# Altium footprint library etx-board.PCBLIB: 4 footprints
Each footprint in its own frame and in the unit in brackets; x right, y up, seen from the top. Pads: shape width x height; smd on the part's side, far side on the other; paste and mask are expansions set on the pad; w line width, h text height; cw(c..) or ccw(c..) is an arc to the next point about the centre after c.
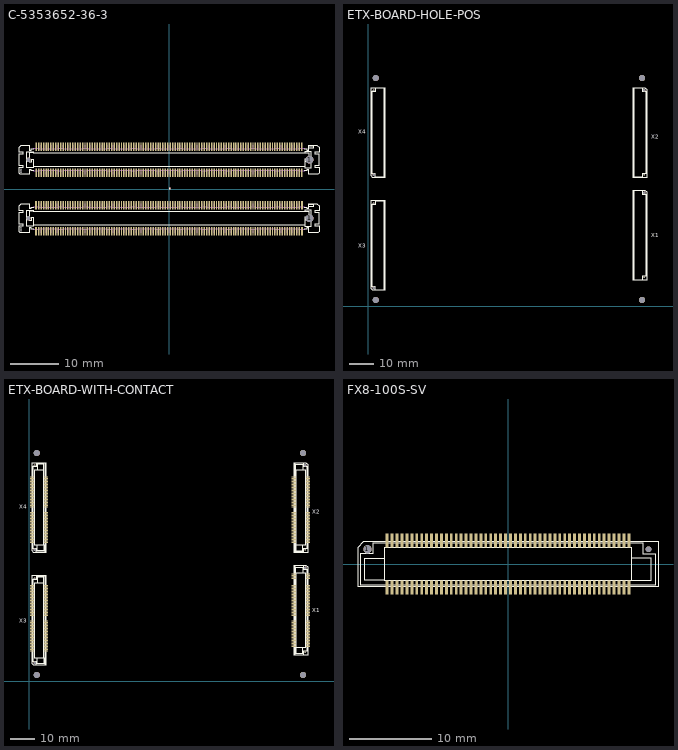
[diagram p0: the footprints below, top view; thin cyan lines are the x and y axes]

## C-5353652-36-3 [mm]
pads (446):
  round 0.9 hole 0.9: 1(-28.85,-6) 1(-28.85,-6) 1(-28.85,6)
  round 1.6 hole 1.6: 1(28.85,-6) 1(28.85,-6) 1(28.85,6)
  rect 0.3x1.75 smd: A1(27.25,8.675) A2(26.75,8.675) A3(26.25,8.675) A4(25.75,8.675) A5(25.25,8.675) A6(24.75,8.675) A7(24.25,8.675) A8(23.75,8.675) A9(23.25,8.675) A10(22.75,8.675) A11(22.25,8.675) A12(21.75,8.675) A13(21.25,8.675) A14(20.75,8.675) A15(20.25,8.675) A16(19.75,8.675) A17(19.25,8.675) A18(18.75,8.675) A19(18.25,8.675) A20(17.75,8.675) A21(17.25,8.675) A22(16.75,8.675) A23(16.25,8.675) A24(15.75,8.675) A25(15.25,8.675) A26(14.75,8.675) A27(14.25,8.675) A28(13.75,8.675) A29(13.25,8.675) A30(12.75,8.675) A31(12.25,8.675) A32(11.75,8.675) A33(11.25,8.675) A34(10.75,8.675) A35(10.25,8.675) A36(9.75,8.675) A37(9.25,8.675) A38(8.75,8.675) A39(8.25,8.675) A40(7.75,8.675) A41(7.25,8.675) A42(6.75,8.675) A43(6.25,8.675) A44(5.75,8.675) A45(5.25,8.675) A46(4.75,8.675) A47(4.25,8.675) A48(3.75,8.675) A49(3.25,8.675) A50(2.75,8.675) A51(2.25,8.675) A52(1.75,8.675) A53(1.25,8.675) A54(0.75,8.675) A55(0.25,8.675) A56(-0.25,8.675) A57(-0.75,8.675) A58(-1.25,8.675) A59(-1.75,8.675) A60(-2.25,8.675) A61(-2.75,8.675) A62(-3.25,8.675) A63(-3.75,8.675) A64(-4.25,8.675) A65(-4.75,8.675) A66(-5.25,8.675) A67(-5.75,8.675) A68(-6.25,8.675) A69(-6.75,8.675) A70(-7.25,8.675) A71(-7.75,8.675) A72(-8.25,8.675) A73(-8.75,8.675) A74(-9.25,8.675) A75(-9.75,8.675) A76(-10.25,8.675) A77(-10.75,8.675) A78(-11.25,8.675) A79(-11.75,8.675) A80(-12.25,8.675) A81(-12.75,8.675) A82(-13.25,8.675) A83(-13.75,8.675) A84(-14.25,8.675) A85(-14.75,8.675) A86(-15.25,8.675) A87(-15.75,8.675) A88(-16.25,8.675) A89(-16.75,8.675) A90(-17.25,8.675) A91(-17.75,8.675) A92(-18.25,8.675) A93(-18.75,8.675) A94(-19.25,8.675) A95(-19.75,8.675) A96(-20.25,8.675) A97(-20.75,8.675) A98(-21.25,8.675) A99(-21.75,8.675) A100(-22.25,8.675) A101(-22.75,8.675) A102(-23.25,8.675) A103(-23.75,8.675) A104(-24.25,8.675) A105(-24.75,8.675) A106(-25.25,8.675) A107(-25.75,8.675) A108(-26.25,8.675) A109(-26.75,8.675) A110(-27.25,8.675) B1(27.25,3.325) B2(26.75,3.325) B3(26.25,3.325) B4(25.75,3.325) B5(25.25,3.325) B6(24.75,3.325) B7(24.25,3.325) B8(23.75,3.325) B9(23.25,3.325) B10(22.75,3.325) B11(22.25,3.325) B12(21.75,3.325) B13(21.25,3.325) B14(20.75,3.325) B15(20.25,3.325) B16(19.75,3.325) B17(19.25,3.325) B18(18.75,3.325) B19(18.25,3.325) B20(17.75,3.325) B21(17.25,3.325) B22(16.75,3.325) B23(16.25,3.325) B24(15.75,3.325) B25(15.25,3.325) B26(14.75,3.325) B27(14.25,3.325) B28(13.75,3.325) B29(13.25,3.325) B30(12.75,3.325) B31(12.25,3.325) B32(11.75,3.325) B33(11.25,3.325) B34(10.75,3.325) B35(10.25,3.325) B36(9.75,3.325) B37(9.25,3.325) B38(8.75,3.325) B39(8.25,3.325) B40(7.75,3.325) B41(7.25,3.325) B42(6.75,3.325) B43(6.25,3.325) B44(5.75,3.325) B45(5.25,3.325) B46(4.75,3.325) B47(4.25,3.325) B48(3.75,3.325) B49(3.25,3.325) B50(2.75,3.325) B51(2.25,3.325) B52(1.75,3.325) B53(1.25,3.325) B54(0.75,3.325) B55(0.25,3.325) B56(-0.25,3.325) B57(-0.75,3.325) B58(-1.25,3.325) B59(-1.75,3.325) B60(-2.25,3.325) B61(-2.75,3.325) B62(-3.25,3.325) B63(-3.75,3.325) B64(-4.25,3.325) B65(-4.75,3.325) B66(-5.25,3.325) B67(-5.75,3.325) B68(-6.25,3.325) B69(-6.75,3.325) B70(-7.25,3.325) B71(-7.75,3.325) B72(-8.25,3.325) B73(-8.75,3.325) B74(-9.25,3.325) B75(-9.75,3.325) B76(-10.25,3.325) B77(-10.75,3.325) B78(-11.25,3.325) B79(-11.75,3.325) B80(-12.25,3.325) B81(-12.75,3.325) B82(-13.25,3.325) B83(-13.75,3.325) B84(-14.25,3.325) B85(-14.75,3.325) B86(-15.25,3.325) B87(-15.75,3.325) B88(-16.25,3.325) B89(-16.75,3.325) B90(-17.25,3.325) B91(-17.75,3.325) B92(-18.25,3.325) B93(-18.75,3.325) B94(-19.25,3.325) B95(-19.75,3.325) B96(-20.25,3.325) B97(-20.75,3.325) B98(-21.25,3.325) B99(-21.75,3.325) B100(-22.25,3.325) B101(-22.75,3.325) B102(-23.25,3.325) B103(-23.75,3.325) B104(-24.25,3.325) B105(-24.75,3.325) B106(-25.25,3.325) B107(-25.75,3.325) B108(-26.25,3.325) B109(-26.75,3.325) B110(-27.25,3.325) C2(26.75,-3.325) C3(26.25,-3.325) C4(25.75,-3.325) C5(25.25,-3.325) C6(24.75,-3.325) C7(24.25,-3.325) C8(23.75,-3.325) C9(23.25,-3.325) C10(22.75,-3.325) C11(22.25,-3.325) C12(21.75,-3.325) C13(21.25,-3.325) C14(20.75,-3.325) C15(20.25,-3.325) C16(19.75,-3.325) C17(19.25,-3.325) C18(18.75,-3.325) C19(18.25,-3.325) C20(17.75,-3.325) C21(17.25,-3.325) C22(16.75,-3.325) C23(16.25,-3.325) C24(15.75,-3.325) C25(15.25,-3.325) C26(14.75,-3.325) C27(14.25,-3.325) C28(13.75,-3.325) C29(13.25,-3.325) C30(12.75,-3.325) C31(12.25,-3.325) C32(11.75,-3.325) C33(11.25,-3.325) C34(10.75,-3.325) C35(10.25,-3.325) C36(9.75,-3.325) C37(9.25,-3.325) C38(8.75,-3.325) C39(8.25,-3.325) C40(7.75,-3.325) C41(7.25,-3.325) C42(6.75,-3.325) C43(6.25,-3.325) C44(5.75,-3.325) C45(5.25,-3.325) C46(4.75,-3.325) C47(4.25,-3.325) C48(3.75,-3.325) C49(3.25,-3.325) C50(2.75,-3.325) C51(2.25,-3.325) C52(1.75,-3.325) C53(1.25,-3.325) C54(0.75,-3.325) C55(0.25,-3.325) C56(-0.25,-3.325) C57(-0.75,-3.325) C58(-1.25,-3.325) C59(-1.75,-3.325) C60(-2.25,-3.325) C61(-2.75,-3.325) C62(-3.25,-3.325) C63(-3.75,-3.325) C64(-4.25,-3.325) C65(-4.75,-3.325) C66(-5.25,-3.325) C67(-5.75,-3.325) C68(-6.25,-3.325) C69(-6.75,-3.325) C70(-7.25,-3.325) C71(-7.75,-3.325) C72(-8.25,-3.325) C73(-8.75,-3.325) C74(-9.25,-3.325) C75(-9.75,-3.325) C76(-10.25,-3.325) C77(-10.75,-3.325) C78(-11.25,-3.325) C79(-11.75,-3.325) C80(-12.25,-3.325) C81(-12.75,-3.325) C82(-13.25,-3.325) C83(-13.75,-3.325) C84(-14.25,-3.325) C85(-14.75,-3.325) C86(-15.25,-3.325) C87(-15.75,-3.325) C88(-16.25,-3.325) C89(-16.75,-3.325) C90(-17.25,-3.325) C91(-17.75,-3.325) C92(-18.25,-3.325) C93(-18.75,-3.325) C94(-19.25,-3.325) C95(-19.75,-3.325) C96(-20.25,-3.325) C97(-20.75,-3.325) C98(-21.25,-3.325) C99(-21.75,-3.325) C100(-22.25,-3.325) C101(-22.75,-3.325) C102(-23.25,-3.325) C103(-23.75,-3.325) C104(-24.25,-3.325) C105(-24.75,-3.325) C106(-25.25,-3.325) C107(-25.75,-3.325) C108(-26.25,-3.325) C109(-26.75,-3.325) D2(26.75,-8.675) D3(26.25,-8.675) D4(25.75,-8.675) D5(25.25,-8.675) D6(24.75,-8.675) D7(24.25,-8.675) D8(23.75,-8.675) D9(23.25,-8.675) D10(22.75,-8.675) D11(22.25,-8.675) D12(21.75,-8.675) D13(21.25,-8.675) D14(20.75,-8.675) D15(20.25,-8.675) D16(19.75,-8.675) D17(19.25,-8.675) D18(18.75,-8.675) D19(18.25,-8.675) D20(17.75,-8.675) D21(17.25,-8.675) D22(16.75,-8.675) D23(16.25,-8.675) D24(15.75,-8.675) D25(15.25,-8.675) D26(14.75,-8.675) D27(14.25,-8.675) D28(13.75,-8.675) D29(13.25,-8.675) D30(12.75,-8.675) D31(12.25,-8.675) D32(11.75,-8.675) D33(11.25,-8.675) D34(10.75,-8.675) D35(10.25,-8.675) D36(9.75,-8.675) D37(9.25,-8.675) D38(8.75,-8.675) D39(8.25,-8.675) D40(7.75,-8.675) D41(7.25,-8.675) D42(6.75,-8.675) D43(6.25,-8.675) D44(5.75,-8.675) D45(5.25,-8.675) D46(4.75,-8.675) D47(4.25,-8.675) D48(3.75,-8.675) D49(3.25,-8.675) D50(2.75,-8.675) D51(2.25,-8.675) D52(1.75,-8.675) D53(1.25,-8.675) D54(0.75,-8.675) D55(0.25,-8.675) D56(-0.25,-8.675) D57(-0.75,-8.675) D58(-1.25,-8.675) D59(-1.75,-8.675) D60(-2.25,-8.675) D61(-2.75,-8.675) D62(-3.25,-8.675) D63(-3.75,-8.675) D64(-4.25,-8.675) D65(-4.75,-8.675) D66(-5.25,-8.675) D67(-5.75,-8.675) D68(-6.25,-8.675) D69(-6.75,-8.675) D70(-7.25,-8.675) D71(-7.75,-8.675) D72(-8.25,-8.675) D73(-8.75,-8.675) D74(-9.25,-8.675) D75(-9.75,-8.675) D76(-10.25,-8.675) D77(-10.75,-8.675) D78(-11.25,-8.675) D79(-11.75,-8.675) D80(-12.25,-8.675) D81(-12.75,-8.675) D82(-13.25,-8.675) D83(-13.75,-8.675) D84(-14.25,-8.675) D85(-14.75,-8.675) D86(-15.25,-8.675) D87(-15.75,-8.675) D88(-16.25,-8.675) D89(-16.75,-8.675) D90(-17.25,-8.675) D91(-17.75,-8.675) D92(-18.25,-8.675) D93(-18.75,-8.675) D94(-19.25,-8.675) D95(-19.75,-8.675) D96(-20.25,-8.675) D97(-20.75,-8.675) D98(-21.25,-8.675) D99(-21.75,-8.675) D100(-22.25,-8.675) D101(-22.75,-8.675) D102(-23.25,-8.675) D103(-23.75,-8.675) D104(-24.25,-8.675) D105(-24.75,-8.675) D106(-25.25,-8.675) D107(-25.75,-8.675) D108(-26.25,-8.675) D109(-26.75,-8.675)
  rect 0.45x1.75 smd: C1(27.325,-3.325) C110(-27.325,-3.325) D1(27.325,-8.675) D110(-27.325,-8.675)
Top Layer:
  region: 0,0 0.254,0 0.254,0.254 0,0.254
  region: 0,0 0.254,0 0.254,0.254 0,0.254
  region: 0,0 0.254,0 0.254,0.254 0,0.254
  region: 0,0 0.254,0 0.254,0.254 0,0.254
Top Overlay:
  region: 0,0 0.254,0 0.254,0.254 0,0.254
  region: 0,0 0.254,0 0.254,0.254 0,0.254
  lines w0.102: 28.725,-3.15 28.725,-3.675 29.6,-3.675 29.6,-3.125 28.75,-3.125 ; 28.725,8.85 28.725,8.325 29.6,8.325 29.6,8.875 28.75,8.875
  lines w0.203: -28.25,-3.8 -28.25,-3.7 ; -28.25,8.2 -28.25,8.3 ; -27.85,-4.5 -27.85,-4.525 ; -27.85,7.5 -27.85,7.475 ; -27.75,-8.3 -28.25,-8.3 -28.25,-8 -28.65,-8 -28.65,-9 -30.55,-9 -30.8,-8.75 -30.8,-7.55 -29.9,-7.55 -29.9,-7.25 -30.7,-7.25 -30.7,-4.75 -29.9,-4.75 -29.9,-4.45 -30.8,-4.45 -30.8,-3.45 -30.35,-3 -28.65,-3 -28.65,-4 -28.25,-4 -28.25,-3.7 ; -27.75,-3.7 -28.25,-3.7 ; -27.75,3.7 -28.25,3.7 -28.25,4 -28.65,4 -28.65,3 -30.55,3 -30.8,3.25 -30.8,4.45 -29.9,4.45 -29.9,4.75 -30.7,4.75 -30.7,7.25 -29.9,7.25 -29.9,7.55 -30.8,7.55 -30.8,8.55 -30.35,9 -28.65,9 -28.65,8 -28.25,8 -28.25,8.3 ; -27.75,8.3 -28.25,8.3 ; 27.75,-8.3 28.25,-8.3 28.25,-8 28.65,-8 28.65,-9 30.55,-9 30.8,-8.75 30.8,-7.55 29.9,-7.55 29.9,-7.25 30.7,-7.25 30.7,-4.75 29.9,-4.75 29.9,-4.45 30.8,-4.45 30.8,-3.45 30.35,-3 28.65,-3 28.65,-4 28.25,-4 28.25,-3.7 27.75,-3.7 ; 27.75,3.7 28.25,3.7 28.25,4 28.65,4 28.65,3 30.55,3 30.8,3.25 30.8,4.45 29.9,4.45 29.9,4.75 30.7,4.75 30.7,7.25 29.9,7.25 29.9,7.55 30.8,7.55 30.8,8.55 30.35,9 28.65,9 28.65,8 28.25,8 28.25,8.3 27.75,8.3 ; 27.825,-7.475 -27.85,-7.475 ; 27.825,4.525 -27.85,4.525 ; -27.85,-7.475 -27.85,-5.85 -28.15,-5.85 -28.15,-6.45 -28.675,-6.45 -28.675,-4.525 -27.85,-4.525 ; -27.85,-7.475 -27.85,-7.675 -29.25,-7.675 -29.25,-4.325 -27.85,-4.325 -27.85,-4.525 ; -27.85,-4.525 27.85,-4.525 ; -27.85,4.525 -27.85,6.15 -28.15,6.15 -28.15,5.55 -28.675,5.55 -28.675,7.475 -27.85,7.475 ; -27.85,4.525 -27.85,4.325 -29.25,4.325 -29.25,7.675 -27.85,7.675 -27.85,7.475 ; -27.85,7.475 27.85,7.475 ; 27.85,-4.525 28.675,-4.525 28.675,-6.45 28.15,-6.45 28.15,-5.85 27.85,-5.85 27.85,-7.675 29.25,-7.675 29.25,-4.35 27.85,-4.35 27.85,-4.525 ; 27.85,7.475 28.675,7.475 28.675,5.55 28.15,5.55 28.15,6.15 27.85,6.15 27.85,4.325 29.25,4.325 29.25,7.65 27.85,7.65 27.85,7.475
  text "220" at -30.5,4.175 h0.34
  text "220" at -30.5,-7.825 h0.34
Top Paste:
  region: 0,0 0.254,0 0.254,0.254 0,0.254
  region: 0,0 0.254,0 0.254,0.254 0,0.254
  region: 0,0 0.254,0 0.254,0.254 0,0.254
  region: 0,0 0.254,0 0.254,0.254 0,0.254
Top Solder:
  drawing of 444 lines, arcs and shapes, not listed
Mechanical 16:
  drawing of 640 lines, arcs and shapes, not listed

## ETX-BOARD-HOLE-POS [mm]
pads (12):
  round 1 hole 1: 1(2.1,7.5) 1(2.1,53.3) 1(111.9,45.9) 1(111.9,87.5)
  round 0.7 hole 0.7: 1(2.1,41.7) 1(2.1,87.5) 1(111.9,11.7) 1(111.9,53.3)
  round 2.5 hole 2.5: 1(3,2.5) 1(3,92.5) 1(111,2.5) 1(111,92.5)
Top Overlay:
  lines w0.102: 1.15,7.05 1.15,42.85 6.65,42.85 6.65,6.35 1.85,6.35 1.15,7.05 ; 1.15,52.85 1.15,88.65 6.65,88.65 6.65,52.15 1.85,52.15 1.15,52.85 ; 1.4,8.15 2.65,8.15 2.65,6.6 6.4,6.6 6.4,42.6 2.7,42.6 2.7,41.05 1.4,41.05 1.4,8.15 ; 1.4,53.95 2.65,53.95 2.65,52.4 6.4,52.4 6.4,88.4 2.7,88.4 2.7,86.85 1.4,86.85 1.4,53.95 ; 107.35,10.55 112.85,10.55 112.85,46.35 112.15,47.05 107.35,47.05 107.35,10.55 ; 107.35,52.15 112.85,52.15 112.85,87.95 112.15,88.65 107.35,88.65 107.35,52.15 ; 107.6,10.8 107.6,46.8 111.35,46.8 111.35,45.25 112.6,45.25 112.6,12.35 111.3,12.35 111.3,10.8 107.6,10.8 ; 107.6,52.4 107.6,88.4 111.35,88.4 111.35,86.85 112.6,86.85 112.6,53.95 111.3,53.95 111.3,52.4 107.6,52.4
  text "X1" at 114.7,27.3 h2.76
  text "X2" at 114.7,67.2 h2.76
  text "X3" at -4.2,23.1 h2.76
  text "X4" at -4.2,69.3 h2.76

## ETX-BOARD-WITH-CONTACT [mm]
pads (412):
  round 1 hole 1: 1(2.1,7.5) 1(2.1,53.3) 1(111.9,45.9) 1(111.9,87.5)
  round 0.7 hole 0.7: 1(2.1,41.7) 1(2.1,87.5) 1(111.9,11.7) 1(111.9,53.3)
  round 2.5 hole 2.5: 1(3,2.5) 1(3,92.5) 1(111,2.5) 1(111,92.5)
  rect 1.7x0.35 smd: 1(112.95,43.5) 2(107.25,43.5) 3(112.95,42.9) 4(107.25,42.9) 5(112.95,42.3) 6(107.25,42.3) 7(112.95,41.7) 8(107.25,41.7) 9(112.95,41.1) 10(107.25,41.1) 11(112.95,40.5) 12(107.25,40.5) 13(112.95,39.9) 14(107.25,39.9) 15(112.95,39.3) 16(107.25,39.3) 17(112.95,38.7) 18(107.25,38.7) 19(112.95,38.1) 20(107.25,38.1) 21(112.95,37.5) 22(107.25,37.5) 23(112.95,36.9) 24(107.25,36.9) 25(112.95,36.3) 26(107.25,36.3) 27(112.95,35.7) 28(107.25,35.7) 29(112.95,35.1) 30(107.25,35.1) 31(112.95,34.5) 32(107.25,34.5) 33(112.95,33.9) 34(107.25,33.9) 35(112.95,33.3) 36(107.25,33.3) 37(112.95,32.7) 38(107.25,32.7) 39(112.95,32.1) 40(107.25,32.1) 41(112.95,31.5) 42(107.25,31.5) 43(112.95,30.9) 44(107.25,30.9) 45(112.95,30.3) 46(107.25,30.3) 47(112.95,29.7) 48(107.25,29.7) 49(112.95,29.1) 50(107.25,29.1) 51(112.95,28.5) 52(107.25,28.5) 53(112.95,27.9) 54(107.25,27.9) 55(112.95,27.3) 56(107.25,27.3) 57(112.95,26.7) 58(107.25,26.7) 59(112.95,26.1) 60(107.25,26.1) 61(112.95,25.5) 62(107.25,25.5) 63(112.95,24.9) 64(107.25,24.9) 65(112.95,24.3) 66(107.25,24.3) 67(112.95,23.7) 68(107.25,23.7) 69(112.95,23.1) 70(107.25,23.1) 71(112.95,22.5) 72(107.25,22.5) 73(112.95,21.9) 74(107.25,21.9) 75(112.95,21.3) 76(107.25,21.3) 77(112.95,20.7) 78(107.25,20.7) 79(112.95,20.1) 80(107.25,20.1) 81(112.95,19.5) 82(107.25,19.5) 83(112.95,18.9) 84(107.25,18.9) 85(112.95,18.3) 86(107.25,18.3) 87(112.95,17.7) 88(107.25,17.7) 89(112.95,17.1) 90(107.25,17.1) 91(112.95,16.5) 92(107.25,16.5) 93(112.95,15.9) 94(107.25,15.9) 95(112.95,15.3) 96(107.25,15.3) 97(112.95,14.7) 98(107.25,14.7) 99(112.95,14.1) 100(107.25,14.1) 101(112.95,85.1) 102(107.25,85.1) 103(112.95,84.5) 104(107.25,84.5) 105(112.95,83.9) 106(107.25,83.9) 107(112.95,83.3) 108(107.25,83.3) 109(112.95,82.7) 110(107.25,82.7) 111(112.95,82.1) 112(107.25,82.1) 113(112.95,81.5) 114(107.25,81.5) 115(112.95,80.9) 116(107.25,80.9) 117(112.95,80.3) 118(107.25,80.3) 119(112.95,79.7) 120(107.25,79.7) 121(112.95,79.1) 122(107.25,79.1) 123(112.95,78.5) 124(107.25,78.5) 125(112.95,77.9) 126(107.25,77.9) 127(112.95,77.3) 128(107.25,77.3) 129(112.95,76.7) 130(107.25,76.7) 131(112.95,76.1) 132(107.25,76.1) 133(112.95,75.5) 134(107.25,75.5) 135(112.95,74.9) 136(107.25,74.9) 137(112.95,74.3) 138(107.25,74.3) 139(112.95,73.7) 140(107.25,73.7) 141(112.95,73.1) 142(107.25,73.1) 143(112.95,72.5) 144(107.25,72.5) 145(112.95,71.9) 146(107.25,71.9) 147(112.95,71.3) 148(107.25,71.3) 149(112.95,70.7) 150(107.25,70.7) 151(112.95,70.1) 152(107.25,70.1) 153(112.95,69.5) 154(107.25,69.5) 155(112.95,68.9) 156(107.25,68.9) 157(112.95,68.3) 158(107.25,68.3) 159(112.95,67.7) 160(107.25,67.7) 161(112.95,67.1) 162(107.25,67.1) 163(112.95,66.5) 164(107.25,66.5) 165(112.95,65.9) 166(107.25,65.9) 167(112.95,65.3) 168(107.25,65.3) 169(112.95,64.7) 170(107.25,64.7) 171(112.95,64.1) 172(107.25,64.1) 173(112.95,63.5) 174(107.25,63.5) 175(112.95,62.9) 176(107.25,62.9) 177(112.95,62.3) 178(107.25,62.3) 179(112.95,61.7) 180(107.25,61.7) 181(112.95,61.1) 182(107.25,61.1) 183(112.95,60.5) 184(107.25,60.5) 185(112.95,59.9) 186(107.25,59.9) 187(112.95,59.3) 188(107.25,59.3) 189(112.95,58.7) 190(107.25,58.7) 191(112.95,58.1) 192(107.25,58.1) 193(112.95,57.5) 194(107.25,57.5) 195(112.95,56.9) 196(107.25,56.9) 197(112.95,56.3) 198(107.25,56.3) 199(112.95,55.7) 200(107.25,55.7) 201(1.05,9.9) 202(6.75,9.9) 203(1.05,10.5) 204(6.75,10.5) 205(1.05,11.1) 206(6.75,11.1) 207(1.05,11.7) 208(6.75,11.7) 209(1.05,12.3) 210(6.75,12.3) 211(1.05,12.9) 212(6.75,12.9) 213(1.05,13.5) 214(6.75,13.5) 215(1.05,14.1) 216(6.75,14.1) 217(1.05,14.7) 218(6.75,14.7) 219(1.05,15.3) 220(6.75,15.3) 221(1.05,15.9) 222(6.75,15.9) 223(1.05,16.5) 224(6.75,16.5) 225(1.05,17.1) 226(6.75,17.1) 227(1.05,17.7) 228(6.75,17.7) 229(1.05,18.3) 230(6.75,18.3) 231(1.05,18.9) 232(6.75,18.9) 233(1.05,19.5) 234(6.75,19.5) 235(1.05,20.1) 236(6.75,20.1) 237(1.05,20.7) 238(6.75,20.7) 239(1.05,21.3) 240(6.75,21.3) 241(1.05,21.9) 242(6.75,21.9) 243(1.05,22.5) 244(6.75,22.5) 245(1.05,23.1) 246(6.75,23.1) 247(1.05,23.7) 248(6.75,23.7) 249(1.05,24.3) 250(6.75,24.3) 251(1.05,24.9) 252(6.75,24.9) 253(1.05,25.5) 254(6.75,25.5) 255(1.05,26.1) 256(6.75,26.1) 257(1.05,26.7) 258(6.75,26.7) 259(1.05,27.3) 260(6.75,27.3) 261(1.05,27.9) 262(6.75,27.9) 263(1.05,28.5) 264(6.75,28.5) 265(1.05,29.1) 266(6.75,29.1) 267(1.05,29.7) 268(6.75,29.7) 269(1.05,30.3) 270(6.75,30.3) 271(1.05,30.9) 272(6.75,30.9) 273(1.05,31.5) 274(6.75,31.5) 275(1.05,32.1) 276(6.75,32.1) 277(1.05,32.7) 278(6.75,32.7) 279(1.05,33.3) 280(6.75,33.3) 281(1.05,33.9) 282(6.75,33.9) 283(1.05,34.5) 284(6.75,34.5) 285(1.05,35.1) 286(6.75,35.1) 287(1.05,35.7) 288(6.75,35.7) 289(1.05,36.3) 290(6.75,36.3) 291(1.05,36.9) 292(6.75,36.9) 293(1.05,37.5) 294(6.75,37.5) 295(1.05,38.1) 296(6.75,38.1) 297(1.05,38.7) 298(6.75,38.7) 299(1.05,39.3) 300(6.75,39.3) 301(1.05,55.7) 302(6.75,55.7) 303(1.05,56.3) 304(6.75,56.3) 305(1.05,56.9) 306(6.75,56.9) 307(1.05,57.5) 308(6.75,57.5) 309(1.05,58.1) 310(6.75,58.1) 311(1.05,58.7) 312(6.75,58.7) 313(1.05,59.3) 314(6.75,59.3) 315(1.05,59.9) 316(6.75,59.9) 317(1.05,60.5) 318(6.75,60.5) 319(1.05,61.1) 320(6.75,61.1) 321(1.05,61.7) 322(6.75,61.7) 323(1.05,62.3) 324(6.75,62.3) 325(1.05,62.9) 326(6.75,62.9) 327(1.05,63.5) 328(6.75,63.5) 329(1.05,64.1) 330(6.75,64.1) 331(1.05,64.7) 332(6.75,64.7) 333(1.05,65.3) 334(6.75,65.3) 335(1.05,65.9) 336(6.75,65.9) 337(1.05,66.5) 338(6.75,66.5) 339(1.05,67.1) 340(6.75,67.1) 341(1.05,67.7) 342(6.75,67.7) 343(1.05,68.3) 344(6.75,68.3) 345(1.05,68.9) 346(6.75,68.9) 347(1.05,69.5) 348(6.75,69.5) 349(1.05,70.1) 350(6.75,70.1) 351(1.05,70.7) 352(6.75,70.7) 353(1.05,71.3) 354(6.75,71.3) 355(1.05,71.9) 356(6.75,71.9) 357(1.05,72.5) 358(6.75,72.5) 359(1.05,73.1) 360(6.75,73.1) 361(1.05,73.7) 362(6.75,73.7) 363(1.05,74.3) 364(6.75,74.3) 365(1.05,74.9) 366(6.75,74.9) 367(1.05,75.5) 368(6.75,75.5) 369(1.05,76.1) 370(6.75,76.1) 371(1.05,76.7) 372(6.75,76.7) 373(1.05,77.3) 374(6.75,77.3) 375(1.05,77.9) 376(6.75,77.9) 377(1.05,78.5) 378(6.75,78.5) 379(1.05,79.1) 380(6.75,79.1) 381(1.05,79.7) 382(6.75,79.7) 383(1.05,80.3) 384(6.75,80.3) 385(1.05,80.9) 386(6.75,80.9) 387(1.05,81.5) 388(6.75,81.5) 389(1.05,82.1) 390(6.75,82.1) 391(1.05,82.7) 392(6.75,82.7) 393(1.05,83.3) 394(6.75,83.3) 395(1.05,83.9) 396(6.75,83.9) 397(1.05,84.5) 398(6.75,84.5) 399(1.05,85.1) 400(6.75,85.1)
Top Overlay:
  lines w0.102: 3.2,9.5 3.2,7.15 5.9,7.15 5.9,9.5 ; 3.2,39.7 3.2,42.05 5.9,42.05 5.9,39.65 ; 3.2,55.3 3.2,52.95 5.9,52.95 5.9,55.3 ; 3.2,85.5 3.2,87.85 5.9,87.85 5.9,85.45 ; 108.1,43.9 108.1,46.25 110.8,46.25 110.8,43.9 ; 108.1,85.5 108.1,87.85 110.8,87.85 110.8,85.5 ; 110.8,13.7 110.8,11.35 108.1,11.35 108.1,13.75 ; 110.8,55.3 110.8,52.95 108.1,52.95 108.1,55.35 ; 5.9,39.65 5.9,9.55 1.9,9.55 1.9,39.65 5.9,39.65 ; 5.9,85.45 5.9,55.35 1.9,55.35 1.9,85.45 5.9,85.45 ; 108.1,13.75 108.1,43.85 112.1,43.85 112.1,13.75 108.1,13.75 ; 108.1,55.35 108.1,85.45 112.1,85.45 112.1,55.35 108.1,55.35 ; 1.15,7.05 1.15,42.85 6.65,42.85 6.65,6.35 1.85,6.35 1.15,7.05 ; 1.15,52.85 1.15,88.65 6.65,88.65 6.65,52.15 1.85,52.15 1.15,52.85 ; 1.4,8.15 2.65,8.15 2.65,6.6 6.4,6.6 6.4,42.6 2.7,42.6 2.7,41.05 1.4,41.05 1.4,8.15 ; 1.4,53.95 2.65,53.95 2.65,52.4 6.4,52.4 6.4,88.4 2.7,88.4 2.7,86.85 1.4,86.85 1.4,53.95 ; 107.35,10.55 112.85,10.55 112.85,46.35 112.15,47.05 107.35,47.05 107.35,10.55 ; 107.35,52.15 112.85,52.15 112.85,87.95 112.15,88.65 107.35,88.65 107.35,52.15 ; 107.6,10.8 107.6,46.8 111.35,46.8 111.35,45.25 112.6,45.25 112.6,12.35 111.3,12.35 111.3,10.8 107.6,10.8 ; 107.6,52.4 107.6,88.4 111.35,88.4 111.35,86.85 112.6,86.85 112.6,53.95 111.3,53.95 111.3,52.4 107.6,52.4
  text "X1" at 114.7,27.3 h2.76
  text "X2" at 114.7,67.2 h2.76
  text "X3" at -4.2,23.1 h2.76
  text "X4" at -4.2,69.3 h2.76

## FX8-100S-SV [mm]
pads (102):
  round 1 hole 1: 1(-17.1,1.8)
  rect 0.35x1.7 smd: 1(-14.7,2.85) 2(-14.7,-2.85) 3(-14.1,2.85) 4(-14.1,-2.85) 5(-13.5,2.85) 6(-13.5,-2.85) 7(-12.9,2.85) 8(-12.9,-2.85) 9(-12.3,2.85) 10(-12.3,-2.85) 11(-11.7,2.85) 12(-11.7,-2.85) 13(-11.1,2.85) 14(-11.1,-2.85) 15(-10.5,2.85) 16(-10.5,-2.85) 17(-9.9,2.85) 18(-9.9,-2.85) 19(-9.3,2.85) 20(-9.3,-2.85) 21(-8.7,2.85) 22(-8.7,-2.85) 23(-8.1,2.85) 24(-8.1,-2.85) 25(-7.5,2.85) 26(-7.5,-2.85) 27(-6.9,2.85) 28(-6.9,-2.85) 29(-6.3,2.85) 30(-6.3,-2.85) 31(-5.7,2.85) 32(-5.7,-2.85) 33(-5.1,2.85) 34(-5.1,-2.85) 35(-4.5,2.85) 36(-4.5,-2.85) 37(-3.9,2.85) 38(-3.9,-2.85) 39(-3.3,2.85) 40(-3.3,-2.85) 41(-2.7,2.85) 42(-2.7,-2.85) 43(-2.1,2.85) 44(-2.1,-2.85) 45(-1.5,2.85) 46(-1.5,-2.85) 47(-0.9,2.85) 48(-0.9,-2.85) 49(-0.3,2.85) 50(-0.3,-2.85) 51(0.3,2.85) 52(0.3,-2.85) 53(0.9,2.85) 54(0.9,-2.85) 55(1.5,2.85) 56(1.5,-2.85) 57(2.1,2.85) 58(2.1,-2.85) 59(2.7,2.85) 60(2.7,-2.85) 61(3.3,2.85) 62(3.3,-2.85) 63(3.9,2.85) 64(3.9,-2.85) 65(4.5,2.85) 66(4.5,-2.85) 67(5.1,2.85) 68(5.1,-2.85) 69(5.7,2.85) 70(5.7,-2.85) 71(6.3,2.85) 72(6.3,-2.85) 73(6.9,2.85) 74(6.9,-2.85) 75(7.5,2.85) 76(7.5,-2.85) 77(8.1,2.85) 78(8.1,-2.85) 79(8.7,2.85) 80(8.7,-2.85) 81(9.3,2.85) 82(9.3,-2.85) 83(9.9,2.85) 84(9.9,-2.85) 85(10.5,2.85) 86(10.5,-2.85) 87(11.1,2.85) 88(11.1,-2.85) 89(11.7,2.85) 90(11.7,-2.85) 91(12.3,2.85) 92(12.3,-2.85) 93(12.9,2.85) 94(12.9,-2.85) 95(13.5,2.85) 96(13.5,-2.85) 97(14.1,2.85) 98(14.1,-2.85) 99(14.7,2.85) 100(14.7,-2.85)
  round 0.7 hole 0.7: 1(17.1,1.8)
Top Overlay:
  lines w0.102: -15.1,-2 -17.45,-2 -17.45,0.7 -15.1,0.7 ; 15.1,0.7 17.45,0.7 17.45,-2 15.05,-2 ; 15.05,-2 -15.05,-2 -15.05,2 15.05,2 15.05,-2 ; -18.25,-2.75 -18.25,2.05 -17.55,2.75 18.25,2.75 18.25,-2.75 -18.25,-2.75 ; -18,-2.5 -18,1.25 -16.45,1.25 -16.45,2.5 16.45,2.5 16.45,1.2 18,1.2 18,-2.5 -18,-2.5